# Altium schematic symbol library CRCW06034M32DHEAP.SchLib: 1 symbol
Pins are listed as number, name and electrical type; pins without a type are passive.

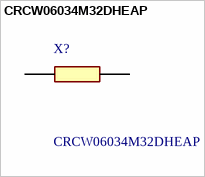
[diagram p0: symbol CRCW06034M32DHEAP]

## CRCW06034M32DHEAP
designator X?
Thick Film Resistors - SMD D11/CRCW0603-P 50 4M32 0.5% ET1 e3; Manufacturer_Name: Vishay; Geometry.Height: 0.5mm; Mouser Part Number: 71-CRCW06034M32DHEAP; Mouser Price/Stock: https://www.mouser.co.uk/ProductDetail/Vishay-Dale/CRCW06034M32DHEAP?qs=e8oIoAS2J1RpwLKsEEgT1A%3D%3D; Manufacturer_Part_Number: CRCW06034M32DHEAP; Datasheet Link: https://www.mouser.kr/ProductDetail/Vishay-Dale/CRCW06034M32DHEAP?qs=sGAEpiMZZMvdGkrng054t2cqbZCzJY7NfsEazQn3I3PZbcQN%252BV0CEA%3D%3D
footprint RESC1608X50N
pins: 1, 2